# Altium schematic symbol library Gravix-Diode.SchLib: 5 symbols
Pins are listed as number, name and electrical type; pins without a type are passive.

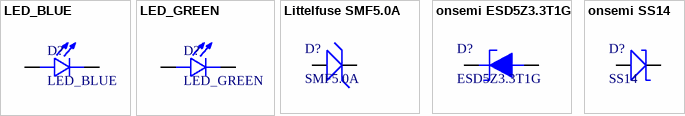
[diagram p0: symbols LED_BLUE to onsemi SS14]

## LED_BLUE
designator D?
Blue 468nm LED Indication - Discrete 2.8V 0402; Manufacturer: VISHAY; Manufacturer Part Number: VLMB1500-GS08; LCSC Part Number: C511042; Package: 0402; ComponentLink1Description: Digikey Link; ComponentLink2Description: LCSC Link; ComponentLink2URL: https://www.lcsc.com/product-detail/C511042.html?s_z=n_q_t_led&spm=wm.fly.bg.0.xh___wm.ssy.tc.0.tz&lcsc_vid=QlAIX1RQQQJfX1VRTwcNAQJXTlRaUQBVEQBYAwJfFFcxVlNRT1RWVlJfRFhYUjsOAxUeFF5JWBYZEEoKFBINSQcJGk4eFQsCAgIaSgADAwAHC0slRlZXU1VSWQkaCgg%3D; Mounting Type: SMD
footprint LED_0402
pins: A, C

## LED_GREEN
designator D?
Green 520nm LED Indication - Discrete 2.8V 0402; Manufacturer: BrtLed; Manufacturer Part Number: BL-HGK37A-AV-TRB; LCSC Part Number: C5123485; Package: 0402; ComponentLink1Description: Digikey Link; ComponentLink2Description: LCSC Link; ComponentLink2URL: https://www.lcsc.com/product-detail/C5123485.html?s_z=n_q_t_led&spm=wm.fly.bg.0.xh___wm.ssy.tc.0.tz&lcsc_vid=QlAIX1RQQQJfX1VRTwcNAQJXTlRaUQBVEQBYAwJfFFcxVlNRT1RWVlJfRFhYUjsOAxUeFF5JWBYZEEoKFBINSQcJGk4eFQsCAgIaSgADAwAHC0slRlZXU1VSWQkaCgg%3D; Mounting Type: SMD
footprint LED_0402
pins: A, C

## Littelfuse SMF5.0A
designator D?, comment SMF5.0A
9.2VC Clamp 21.7A Ipp TVS DIODE SOD-123FL; Manufacturer: Littelfuse; Manufacturer Part Number: SMF5.0A; LCSC Part Number: C151296; Package: SOD-123FL; Mounting Type: SMD; ComponentLink2Description: Digikey Link; ComponentLink3Description: LCSC Link; ComponentLink3URL: https://www.lcsc.com/product-detail/C151296.html?s_z=n_q_SMF5.0A&spm=wm.fly.bg.0.xh&lcsc_vid=TgRYXlMEFQVcUQVUT1hcVlJUQ1MPAlRVQVBcVABeFAUxVlNRT1RZVFRUQ1NdUTsOAxUeFF5JWBYZEEoKFBINSQcJGk4eFQsCAgIaSgADAwAHC0slQFRfXkoOAwwC
footprint SMF5.0A_
pins: 1, 2

## onsemi ESD5Z3.3T1G
designator D?, comment ESD5Z3.3T1G
TVS DIODE 3.3VWM 14.1VC SOD-523; Manufacturer: onsemi; Manufacturer Part Number: ESD5Z3.3T1G; LCSC Part Number: C61148; Package: SOD-523; ComponentLink1Description: Digikey Link; ComponentLink2Description: LCSC Link; ComponentLink2URL: https://www.lcsc.com/product-detail/C61148.html?s_z=n_ESD5Z3.3T1G; Mounting Type: SMD
footprint ESD5Z3.3T1G_SOD-523
pins: 1, 2

## onsemi SS14
designator D?, comment SS14
Diode 40V 1A Surface Mount SMA(DO-214AC); Manufacturer: onsemi; Manufacturer Part Number: SS14; LCSC Part Number: C83852; Package: SMA(DO-214AC); Mounting Type: SMD; ComponentLink2Description: Digikey Link; ComponentLink3Description: LCSC Link; ComponentLink3URL: https://www.lcsc.com/product-detail/C83852.html?s_z=n_q_x_SS14&spm=wm.ssy.em.2.tz&lcsc_vid=TgRYXlMEFQVcUQVUT1hcVlJUQ1MPAlRVQVBcVABeFAUxVlNRT1RZVFVUQVBXUTsOAxUeFF5JWBYZEEoKFBINSQcJGk4eFQsCAgIaSgADAwAHC0slRVVWV0oOAwwC
footprint SS14_SMA(DO-214AC)
pins: 1, 2